# Altium schematic symbol library CAP-NON-POLAR.SchLib: 1 symbol
Pins are listed as number, name and electrical type; pins without a type are passive.

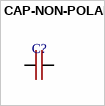
[diagram p0: symbol CAP-NON-POLAR]

## CAP-NON-POLAR
designator C?
footprint CAP-0402
footprint CAP-0201
footprint CAP-0603
footprint CAP-0805
footprint CAP-1206
footprint CAP_1.5uf_400V
footprint CAP_3.3uF_630V
footprint CAP_4.7uF_630V
footprint FKP2D011001A00JSSD
footprint Z121578672 77G
footprint AV C4AE 5.0uf 900V
pins: 1, 2